# Altium footprint library 400AX.PcbLib: 1 footprints
Each footprint in its own frame and in the unit in brackets; x right, y up, seen from the top. Pads: shape width x height; smd on the part's side, far side on the other; paste and mask are expansions set on the pad; w line width, h text height; cw(c..) or ccw(c..) is an arc to the next point about the centre after c.
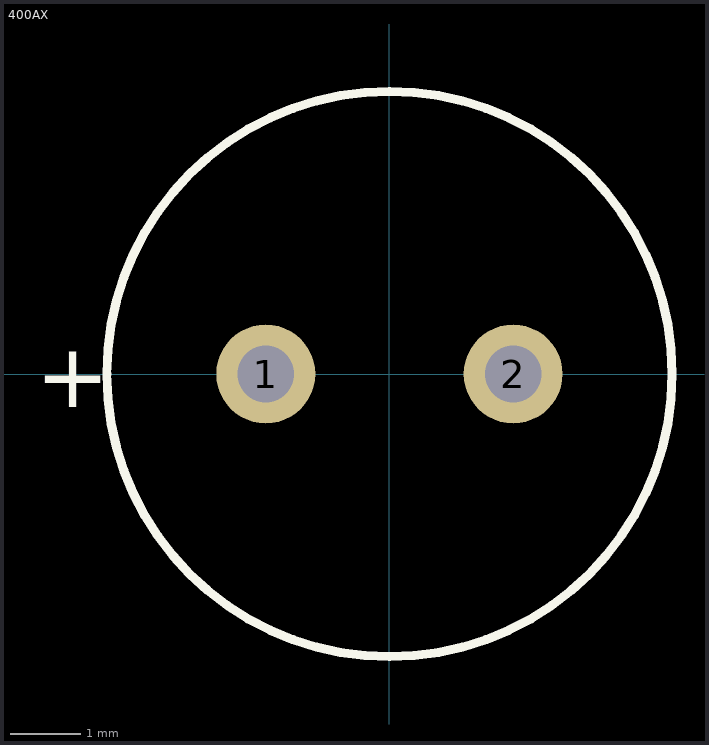
[diagram p0: the footprint, top view; thin cyan lines are the x and y axes]

## 400AX [mm]
pads (2):
  round 1.4 hole 0.8: 1(-1.75,0) 2(1.75,0)
Top Overlay:
  circle w0.127: c0,0 r4
  text "+" at -5.004,-0.472 h0.91
3D body: height 0, standoff -15, extent 1.254,-0.499 2.25,0.499
3D body: height 0, standoff -19, extent -2.246,-0.499 -1.25,0.499
3D body: height 10.8, standoff 0, extent -3.94,-3.992 4.028,3.992